# Altium footprint library PC_0805.PcbLib: 1 footprints
Each footprint in its own frame and in the unit in brackets; x right, y up, seen from the top. Pads: shape width x height; smd on the part's side, far side on the other; paste and mask are expansions set on the pad; w line width, h text height; cw(c..) or ccw(c..) is an arc to the next point about the centre after c.
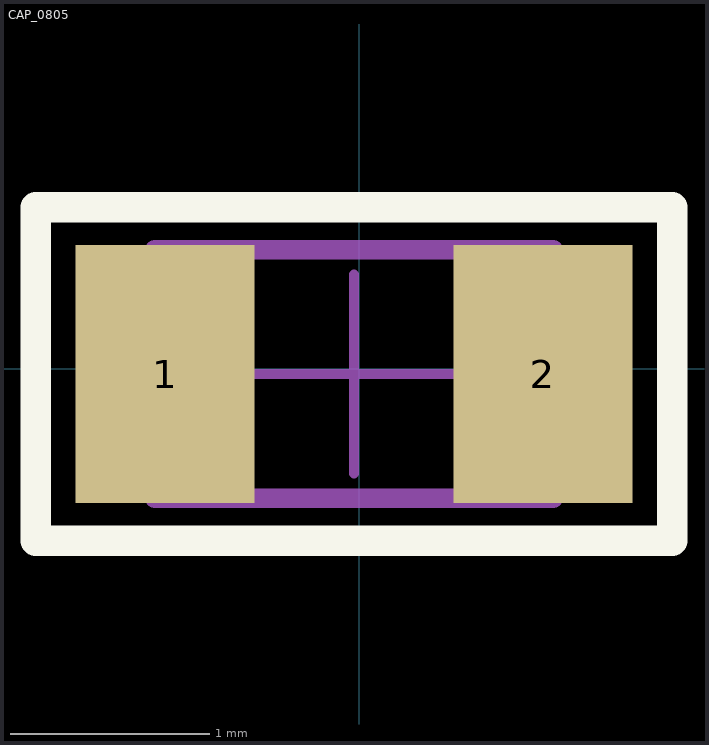
[diagram p0: the footprint, top view; thin cyan lines are the x and y axes]

## CAP_0805 [mm]
pads (2):
  rect 0.9x1.3 smd: 1(-0.975,-0.025) 2(0.925,-0.025)
Top Overlay:
  lines w0.152: -1.626,-0.864 1.575,-0.864 1.575,0.813 -1.473,0.813 -1.626,0.813 -1.626,-0.864
Mechanical 13:
  lines w0.1: -1.025,-0.65 -1.025,0.6 0.975,0.6 0.975,-0.65 -1.025,-0.65
Mechanical 15:
  lines w0.05: -0.525,-0.025 0.475,-0.025 ; -0.025,-0.525 -0.025,0.475 ; -1.625,-0.9 1.575,-0.9 1.575,0.85 -1.625,0.85 -1.625,-0.9
3D body "2x1.25x0.6x0.5.stp": height 0.6, standoff 0, extent -1.025,-0.65 0.975,0.6